# Altium schematic symbol library Crystals.SchLib: 2 symbols
Pins are listed as number, name and electrical type; pins without a type are passive.

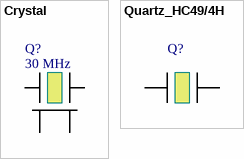
[diagram p0: symbols Crystal to Quartz_HC49/4H]

## Crystal
designator Q?, comment 30 MHz
TXC - 7M-30.000MEEQ-T - QUARTZ CRYSTAL, 30 MHZ, 10 PF, SMD; Catalog: Farnell; Catalog number: 2308724; Value: 7M-30.000MEEQ-T; Price: 1.40 €
footprint 7M series 3.20x2.50
pins: 1, 2 GND, 3, 4 GND

## Quartz_HC49/4H
designator Q?  (value not drawn)
Quartz
footprint HC49_US
pins: 1, 2